# EAGLE library part 5749070-9 (library D-Sub Connectors)
CONN DTYPE RCPT 100POS VERT SLDR Manufacturer's datasheet <https://www.te.com/commerce/DocumentDelivery/DDEController?Action=srchrtrv&DocNm=5749070&DocType=Customer+Drawing&DocLang=English>
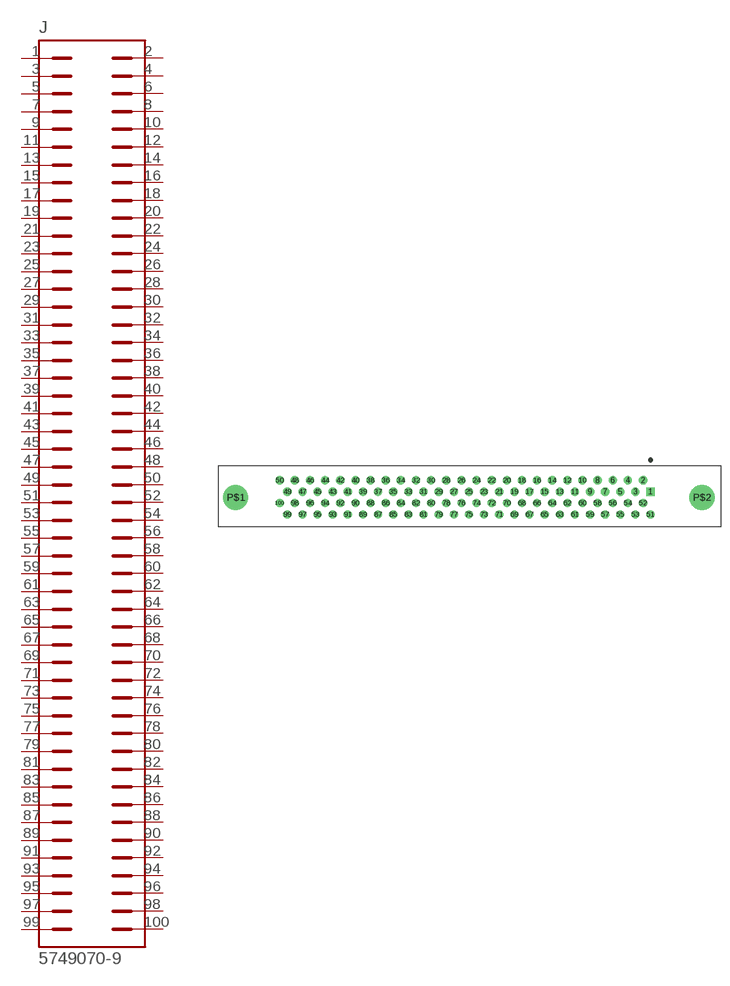
[diagram p5: symbol with the pads of 5749070-9; footprint 5749070-9]

Designator prefix J

## 5749070-9 (CREATED_BY: PCBLayout.com; DIGIKEY_PART_NO: A31824-ND; MANUFATURER: TE Connectivity AMP Connectors; MPN: 5749070-9)  [5749070-9]
1  1  pas
2  2  pas
3  3  pas
4  4  pas
5  5  pas
6  6  pas
7  7  pas
8  8  pas
9  9  pas
10  10  pas
11  11  pas
12  12  pas
13  13  pas
14  14  pas
15  15  pas
16  16  pas
17  17  pas
18  18  pas
19  19  pas
20  20  pas
21  21  pas
22  22  pas
23  23  pas
24  24  pas
25  25  pas
26  26  pas
27  27  pas
28  28  pas
29  29  pas
30  30  pas
31  31  pas
32  32  pas
33  33  pas
34  34  pas
35  35  pas
36  36  pas
37  37  pas
38  38  pas
39  39  pas
40  40  pas
41  41  pas
42  42  pas
43  43  pas
44  44  pas
45  45  pas
46  46  pas
47  47  pas
48  48  pas
49  49  pas
50  50  pas
51  51  pas
52  52  pas
53  53  pas
54  54  pas
55  55  pas
56  56  pas
57  57  pas
58  58  pas
59  59  pas
60  60  pas
61  61  pas
62  62  pas
63  63  pas
64  64  pas
65  65  pas
66  66  pas
67  67  pas
68  68  pas
69  69  pas
70  70  pas
71  71  pas
72  72  pas
73  73  pas
74  74  pas
75  75  pas
76  76  pas
77  77  pas
78  78  pas
79  79  pas
80  80  pas
81  81  pas
82  82  pas
83  83  pas
84  84  pas
85  85  pas
86  86  pas
87  87  pas
88  88  pas
89  89  pas
90  90  pas
91  91  pas
92  92  pas
93  93  pas
94  94  pas
95  95  pas
96  96  pas
97  97  pas
98  98  pas
99  99  pas
100  100  pas

## Footprint 5749070-9 (pad centres in mm)
drill 0.865 square: 1 30.48,0
drill 0.865: 2 29.21,1.91; 3 27.94,0; 4 26.67,1.91; 5 25.4,0; 6 24.13,1.91; 7 22.86,0; 8 21.59,1.91; 9 20.32,0; 10 19.05,1.91; 11 17.78,0; 12 16.51,1.91; 13 15.24,0; 14 13.97,1.91; 15 12.7,0; 16 11.43,1.91; 17 10.16,0; 18 8.89,1.91; 19 7.62,0; 20 6.35,1.91; 21 5.08,0; 22 3.81,1.91; 23 2.54,0; 24 1.27,1.91; 25 0,0; 26 -1.27,1.91; 27 -2.54,0; 28 -3.81,1.91; 29 -5.08,0; 30 -6.35,1.91; 31 -7.62,0; 32 -8.89,1.91; 33 -10.16,0; 34 -11.43,1.91; 35 -12.7,0; 36 -13.97,1.91; 37 -15.24,0; 38 -16.51,1.91; 39 -17.78,0; 40 -19.05,1.91; 41 -20.32,0; 42 -21.59,1.91; 43 -22.86,0; 44 -24.13,1.91; 45 -25.4,0; 46 -26.67,1.91; 47 -27.94,0; 48 -29.21,1.91; 49 -30.48,0; 50 -31.75,1.91; 51 30.48,-3.82; 52 29.21,-1.91; 53 27.94,-3.82; 54 26.67,-1.91; 55 25.4,-3.82; 56 24.13,-1.91; 57 22.86,-3.82; 58 21.59,-1.91; 59 20.32,-3.82; 60 19.05,-1.91; 61 17.78,-3.82; 62 16.51,-1.91; 63 15.24,-3.82; 64 13.97,-1.91; 65 12.7,-3.82; 66 11.43,-1.91; 67 10.16,-3.82; 68 8.89,-1.91; 69 7.62,-3.82; 70 6.35,-1.91; 71 5.08,-3.82; 72 3.81,-1.91; 73 2.54,-3.82; 74 1.27,-1.91; 75 0,-3.82; 76 -1.27,-1.91; 77 -2.54,-3.82; 78 -3.81,-1.91; 79 -5.08,-3.82; 80 -6.35,-1.91; 81 -7.62,-3.82; 82 -8.89,-1.91; 83 -10.16,-3.82; 84 -11.43,-1.91; 85 -12.7,-3.82; 86 -13.97,-1.91; 87 -15.24,-3.82; 88 -16.51,-1.91; 89 -17.78,-3.82; 90 -19.05,-1.91; 91 -20.32,-3.82; 92 -21.59,-1.91; 93 -22.86,-3.82; 94 -24.13,-1.91; 95 -25.4,-3.82; 96 -26.67,-1.91; 97 -27.94,-3.82; 98 -29.21,-1.91; 99 -30.48,-3.82; 100 -31.75,-1.91
drill 3.18: P$1 -39.115,-0.953; P$2 39.115,-0.953